# EAGLE library part SWITCH-DPDT (library electromechanical)
DPDT Version of the COM-00597
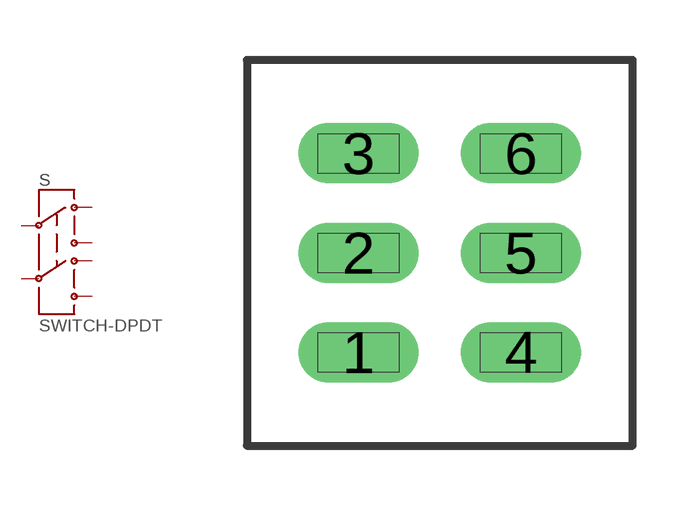
[diagram p0: symbol with the pads of SWITCH-DPDT_SUBMINIATURE; footprint SWITCH-DPDT_SUBMINIATURE]

Designator prefix S

## SWITCH-DPDTPTH1  [SWITCH-DPDT_SUBMINIATURE]
1  1
2  2
3  3
4  4
5  5
6  6

## Footprint SWITCH-DPDT_SUBMINIATURE (pad centres in mm)
DPDT Subminiature toggle switch
drill 1 pad 1.422 long: 1 -2.032,-2.489; 2 -2.032,0; 3 -2.032,2.489; 4 2.032,-2.489; 5 2.032,0; 6 2.032,2.489